# Altium schematic symbol library LM5060-VSSOP10.SchLib: 1 symbol
Pins are listed as number, name and electrical type; pins without a type are passive.

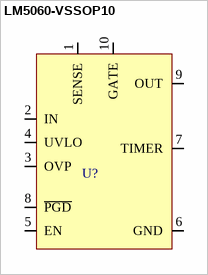
[diagram p0: symbol LM5060-VSSOP10]

## LM5060-VSSOP10
designator U?  (value not drawn)
pins: 1 SENSE, 2 IN, 3 OVP, 4 UVLO, 5 EN, 6 GND, 7 TIMER, 8 ~{PGD}, 9 OUT, 10 GATE